# EAGLE library part STEPPER-MOTOR-DRIVER-L6470 (library acs712)
Stepper Motor Driver based on L6470 chip More details can be found here: https://www.sparkfun.com/products/retired/10859 L6470 datasheet is available here: www.st.com/resource/en/datasheet/CD00255075.pdf Click here to find device on ebay.com <http://www.ebay.com/sch/l6470+breakout>
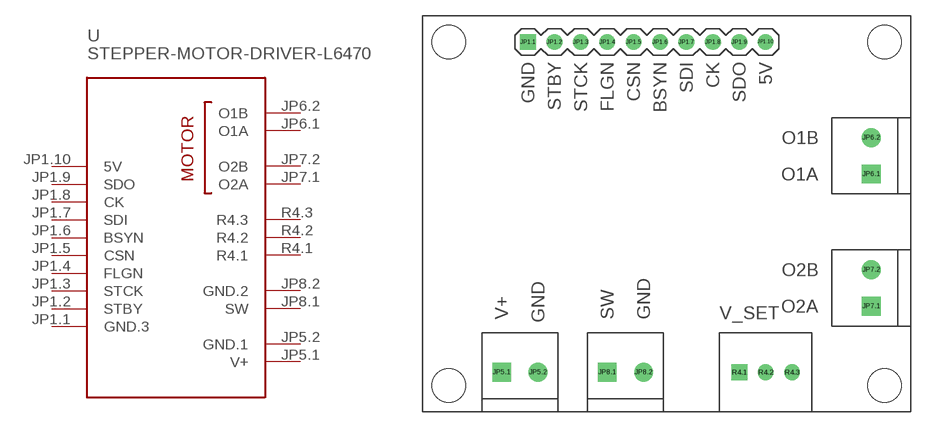
[diagram p56: symbol with the pads of STEPPER-MOTOR-DRIVER-L6470; footprint STEPPER-MOTOR-DRIVER-L6470]

Designator prefix -

## STEPPER-MOTOR-DRIVER-L6470  [STEPPER-MOTOR-DRIVER-L6470]
JP1.1  GND.3  pwr
JP1.2  STBY
JP1.3  STCK
JP1.4  FLGN
JP1.5  CSN
JP1.6  BSYN
JP1.7  SDI
JP1.8  CK
JP1.9  SDO
JP1.10  5V  pwr
JP5.1  V+  pwr
JP5.2  GND.1  pwr
JP6.1  O1A  out
JP6.2  O1B  out
JP7.1  O2A  out
JP7.2  O2B  out
JP8.1  SW
JP8.2  GND.2
R4.1  R4.1  pas
R4.2  R4.2  pas
R4.3  R4.3  pas

## Footprint STEPPER-MOTOR-DRIVER-L6470 (pad centres in mm)
Stepper Motor Driver based on L6470 chip
drill 1 square: JP1.1 -13.335,16.51; R4.1 6.985,-15.24
drill 1: JP1.2 -10.795,16.51; JP1.3 -8.255,16.51; JP1.4 -5.715,16.51; JP1.5 -3.175,16.51; JP1.6 -0.635,16.51; JP1.7 1.905,16.51; JP1.8 4.445,16.51; JP1.9 6.985,16.51; JP1.10 9.525,16.51; R4.2 9.525,-15.24; R4.3 12.065,-15.24
drill 1.2 square: JP5.1 -15.875,-15.24; JP6.1 19.685,3.81; JP7.1 19.685,-8.89; JP8.1 -5.715,-15.24
drill 1.2: JP5.2 -12.37,-15.24; JP6.2 19.685,7.315; JP7.2 19.685,-5.385; JP8.2 -2.21,-15.24
hole 3.2 at -20.955,16.51
hole 3.2 at -20.955,-16.51
hole 3.2 at 20.955,16.51
hole 3.2 at 20.955,-16.51